# Altium footprint library Dual-In-Line Package.PcbLib: 120 footprints (part 7 of 8)
Each footprint in its own frame and in the unit in brackets; x right, y up, seen from the top. Pads: shape width x height; smd on the part's side, far side on the other; paste and mask are expansions set on the pad; w line width, h text height; cw(c..) or ccw(c..) is an arc to the next point about the centre after c.
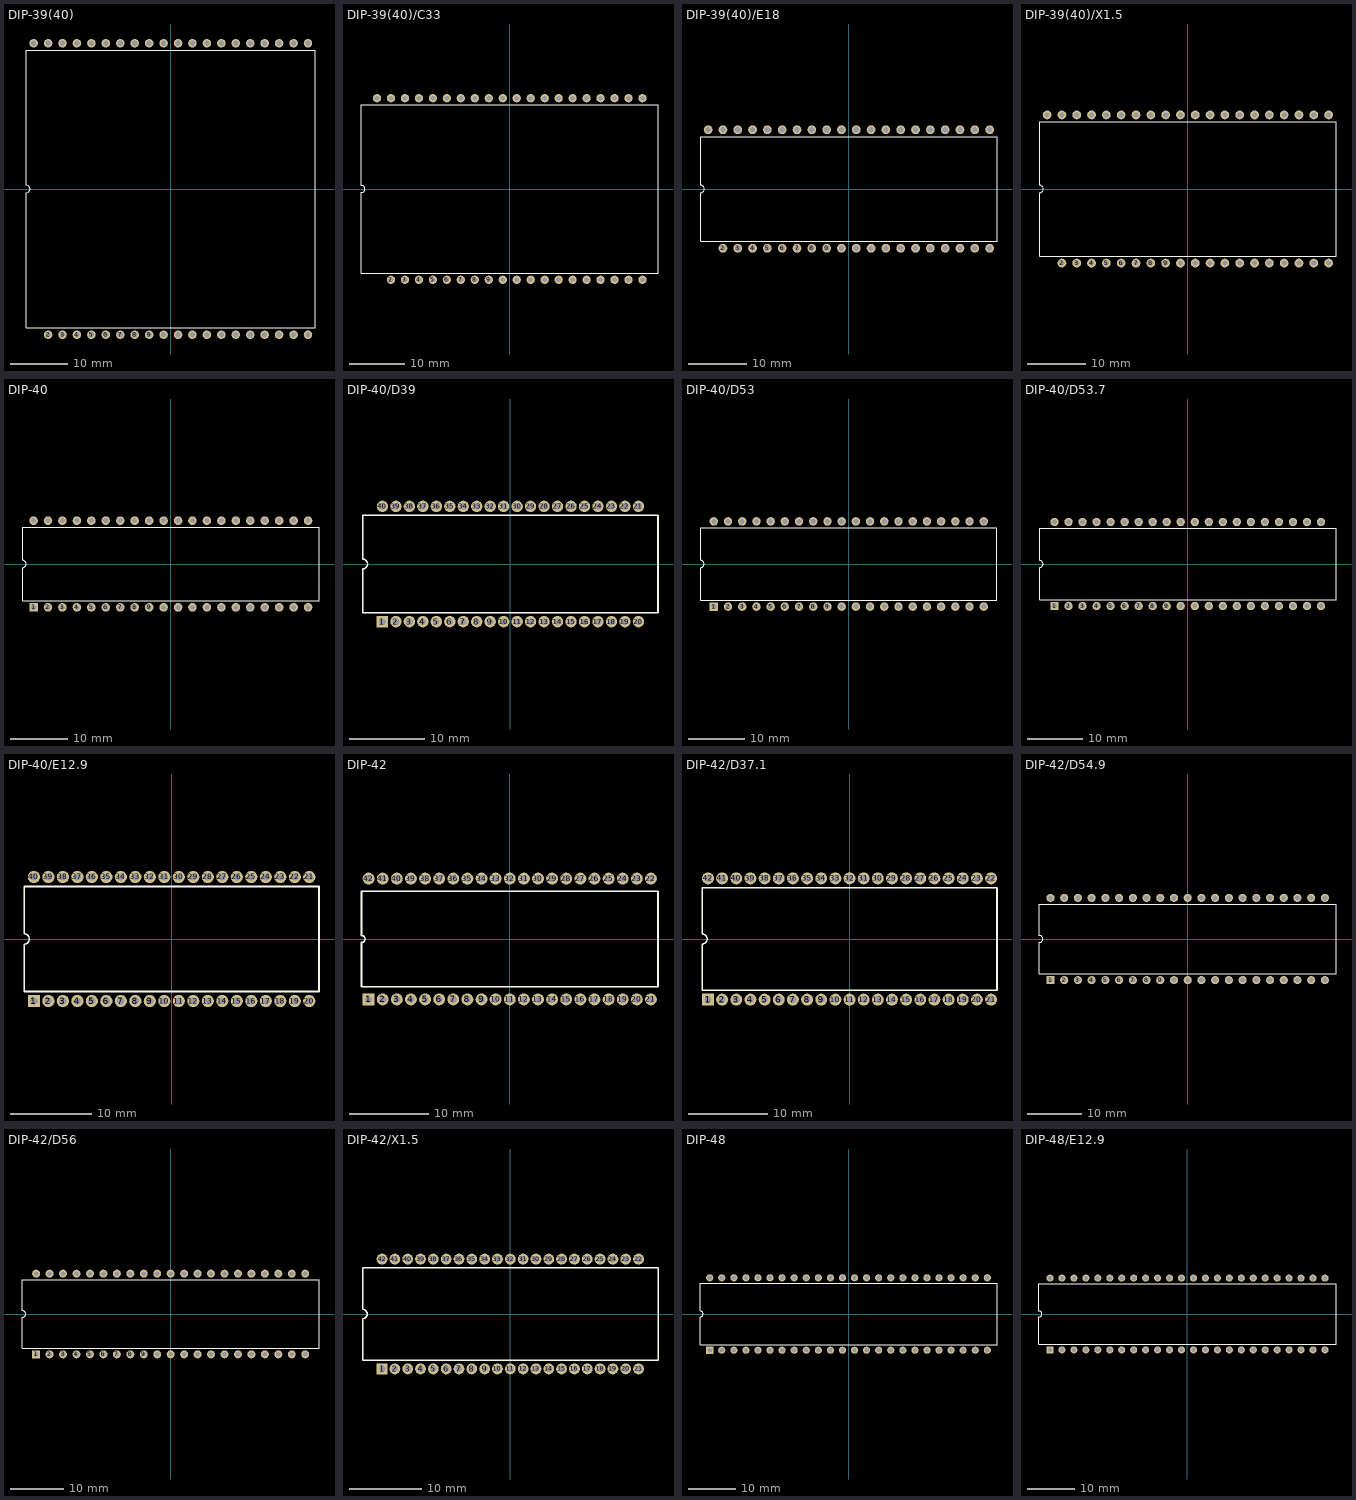
[diagram p6: the footprints below, top view; thin cyan lines are the x and y axes]

## DIP-39(40) [mm] "DIP; 40 Leads (1 Absent); Row Spacing 51.269 mm; Pitch 2.54 mm"
height 7.3
pads (39):
  round 1.5 hole 0.9: 2(-21.59,-25.635) 3(-19.05,-25.635) 4(-16.51,-25.635) 5(-13.97,-25.635) 6(-11.43,-25.635) 7(-8.89,-25.635) 8(-6.35,-25.635) 9(-3.81,-25.635) 10(-1.27,-25.635) 11(1.27,-25.635) 12(3.81,-25.635) 13(6.35,-25.635) 14(8.89,-25.635) 15(11.43,-25.635) 16(13.97,-25.635) 17(16.51,-25.635) 18(19.05,-25.635) 19(21.59,-25.635) 20(24.13,-25.635) 21(24.13,25.635) 22(21.59,25.635) 23(19.05,25.635) 24(16.51,25.635) 25(13.97,25.635) 26(11.43,25.635) 27(8.89,25.635) 28(6.35,25.635) 29(3.81,25.635) 30(1.27,25.635) 31(-1.27,25.635) 32(-3.81,25.635) 33(-6.35,25.635) 34(-8.89,25.635) 35(-11.43,25.635) 36(-13.97,25.635) 37(-16.51,25.635) 38(-19.05,25.635) 39(-21.59,25.635) 40(-24.13,25.635)
Top Overlay:
  lines w0.2: -25.4,-24.45 25.4,-24.45 25.4,24.45 -25.4,24.45 -25.4,0.635 cw(c-25.4,0) -25.4,-0.635 -25.4,-24.45

## DIP-39(40)/C33 [mm] "DIP; 40 Leads (1 Absent); Row Spacing 33 mm; Pitch 2.54 mm"
height 10.17
pads (39):
  round 1.5 hole 0.9: 2(-21.59,-16.5) 3(-19.05,-16.5) 4(-16.51,-16.5) 5(-13.97,-16.5) 6(-11.43,-16.5) 7(-8.89,-16.5) 8(-6.35,-16.5) 9(-3.81,-16.5) 10(-1.27,-16.5) 11(1.27,-16.5) 12(3.81,-16.5) 13(6.35,-16.5) 14(8.89,-16.5) 15(11.43,-16.5) 16(13.97,-16.5) 17(16.51,-16.5) 18(19.05,-16.5) 19(21.59,-16.5) 20(24.13,-16.5) 21(24.13,16.5) 22(21.59,16.5) 23(19.05,16.5) 24(16.51,16.5) 25(13.97,16.5) 26(11.43,16.5) 27(8.89,16.5) 28(6.35,16.5) 29(3.81,16.5) 30(1.27,16.5) 31(-1.27,16.5) 32(-3.81,16.5) 33(-6.35,16.5) 34(-8.89,16.5) 35(-11.43,16.5) 36(-13.97,16.5) 37(-16.51,16.5) 38(-19.05,16.5) 39(-21.59,16.5) 40(-24.13,16.5)
Top Overlay:
  lines w0.2: -26.95,-15.35 26.95,-15.35 26.95,15.35 -26.95,15.35 -26.95,0.635 cw(c-26.95,0) -26.95,-0.635 -26.95,-15.35

## DIP-39(40)/E18 [mm] "DIP; 40 Leads (1 Absent); Row Spacing 20.32 mm; Pitch 2.54 mm"
height 8.65
pads (39):
  round 1.5 hole 0.9: 2(-21.59,-10.16) 3(-19.05,-10.16) 4(-16.51,-10.16) 5(-13.97,-10.16) 6(-11.43,-10.16) 7(-8.89,-10.16) 8(-6.35,-10.16) 9(-3.81,-10.16) 10(-1.27,-10.16) 11(1.27,-10.16) 12(3.81,-10.16) 13(6.35,-10.16) 14(8.89,-10.16) 15(11.43,-10.16) 16(13.97,-10.16) 17(16.51,-10.16) 18(19.05,-10.16) 19(21.59,-10.16) 20(24.13,-10.16) 21(24.13,10.16) 22(21.59,10.16) 23(19.05,10.16) 24(16.51,10.16) 25(13.97,10.16) 26(11.43,10.16) 27(8.89,10.16) 28(6.35,10.16) 29(3.81,10.16) 30(1.27,10.16) 31(-1.27,10.16) 32(-3.81,10.16) 33(-6.35,10.16) 34(-8.89,10.16) 35(-11.43,10.16) 36(-13.97,10.16) 37(-16.51,10.16) 38(-19.05,10.16) 39(-21.59,10.16) 40(-24.13,10.16)
Top Overlay:
  lines w0.2: -25.4,-9 -25.4,-0.635 ccw(c-25.4,0) -25.4,0.635 -25.4,9 25.4,9 25.4,-9 -25.4,-9

## DIP-39(40)/X1.5 [mm] "DIP; 40 Leads (1 Absent); Row Spacing 25.4 mm; Pitch 2.54 mm"
height 7.62
pads (39):
  round 1.5 hole 0.9: 2(-21.59,-12.7) 3(-19.05,-12.7) 4(-16.51,-12.7) 5(-13.97,-12.7) 6(-11.43,-12.7) 7(-8.89,-12.7) 8(-6.35,-12.7) 9(-3.81,-12.7) 10(-1.27,-12.7) 11(1.27,-12.7) 12(3.81,-12.7) 13(6.35,-12.7) 14(8.89,-12.7) 15(11.43,-12.7) 16(13.97,-12.7) 17(16.51,-12.7) 18(19.05,-12.7) 19(21.59,-12.7) 20(24.13,-12.7) 21(24.13,12.7) 22(21.59,12.7) 23(19.05,12.7) 24(16.51,12.7) 25(13.97,12.7) 26(11.43,12.7) 27(8.89,12.7) 28(6.35,12.7) 29(3.81,12.7) 30(1.27,12.7) 31(-1.27,12.7) 32(-3.81,12.7) 33(-6.35,12.7) 34(-8.89,12.7) 35(-11.43,12.7) 36(-13.97,12.7) 37(-16.51,12.7) 38(-19.05,12.7) 39(-21.59,12.7) 40(-24.13,12.7)
Top Overlay:
  lines w0.2: -25.4,-11.55 -25.4,-0.635 ccw(c-25.4,0) -25.4,0.635 -25.4,11.55 25.4,11.55 25.4,-11.55 -25.4,-11.55

## DIP-40 [mm] "DIP; 40 Leads; Row Spacing 15.24 mm; Pitch 2.54 mm"
height 5.08
pads (40):
  rect 1.5x1.5 hole 0.9: 1(-24.13,-7.62)
  round 1.5 hole 0.9: 2(-21.59,-7.62) 3(-19.05,-7.62) 4(-16.51,-7.62) 5(-13.97,-7.62) 6(-11.43,-7.62) 7(-8.89,-7.62) 8(-6.35,-7.62) 9(-3.81,-7.62) 10(-1.27,-7.62) 11(1.27,-7.62) 12(3.81,-7.62) 13(6.35,-7.62) 14(8.89,-7.62) 15(11.43,-7.62) 16(13.97,-7.62) 17(16.51,-7.62) 18(19.05,-7.62) 19(21.59,-7.62) 20(24.13,-7.62) 21(24.13,7.62) 22(21.59,7.62) 23(19.05,7.62) 24(16.51,7.62) 25(13.97,7.62) 26(11.43,7.62) 27(8.89,7.62) 28(6.35,7.62) 29(3.81,7.62) 30(1.27,7.62) 31(-1.27,7.62) 32(-3.81,7.62) 33(-6.35,7.62) 34(-8.89,7.62) 35(-11.43,7.62) 36(-13.97,7.62) 37(-16.51,7.62) 38(-19.05,7.62) 39(-21.59,7.62) 40(-24.13,7.62)
Top Overlay:
  lines w0.2: -26.05,-6.45 -26.05,-0.635 ccw(c-26.05,0) -26.05,0.635 -26.05,6.45 26.05,6.45 26.05,-6.45 -26.05,-6.45

## DIP-40/D39 [mm] "DIP; 40 Leads; Row Spacing 15.24 mm; Pitch 1.778 mm"
height 5.08
pads (40):
  rect 1.5x1.5 hole 0.9: 1(-16.91,-7.62)
  round 1.5 hole 0.9: 2(-15.13,-7.62) 3(-13.35,-7.62) 4(-11.57,-7.62) 5(-9.79,-7.62) 6(-8.01,-7.62) 7(-6.23,-7.62) 8(-4.45,-7.62) 9(-2.67,-7.62) 10(-0.89,-7.62) 11(0.89,-7.62) 12(2.67,-7.62) 13(4.45,-7.62) 14(6.23,-7.62) 15(8.01,-7.62) 16(9.79,-7.62) 17(11.57,-7.62) 18(13.35,-7.62) 19(15.13,-7.62) 20(16.91,-7.62) 21(16.91,7.62) 22(15.13,7.62) 23(13.35,7.62) 24(11.57,7.62) 25(9.79,7.62) 26(8.01,7.62) 27(6.23,7.62) 28(4.45,7.62) 29(2.67,7.62) 30(0.89,7.62) 31(-0.89,7.62) 32(-2.67,7.62) 33(-4.45,7.62) 34(-6.23,7.62) 35(-8.01,7.62) 36(-9.79,7.62) 37(-11.57,7.62) 38(-13.35,7.62) 39(-15.13,7.62) 40(-16.91,7.62)
Top Overlay:
  lines w0.2: -19.5,-6.45 -19.5,-0.635 ccw(c-19.5,0) -19.5,0.635 -19.5,6.45 19.5,6.45 19.5,-6.45 -19.5,-6.45

## DIP-40/D53 [mm] "40-Pin Ceramic Dual In-Line Package (CerDIP)"
height 5.72
pads (40):
  rect 1.5x1.5 hole 0.9: 1(-24.13,-7.62)
  round 1.5 hole 0.9: 2(-21.59,-7.62) 3(-19.05,-7.62) 4(-16.51,-7.62) 5(-13.97,-7.62) 6(-11.43,-7.62) 7(-8.89,-7.62) 8(-6.35,-7.62) 9(-3.81,-7.62) 10(-1.27,-7.62) 11(1.27,-7.62) 12(3.81,-7.62) 13(6.35,-7.62) 14(8.89,-7.62) 15(11.43,-7.62) 16(13.97,-7.62) 17(16.51,-7.62) 18(19.05,-7.62) 19(21.59,-7.62) 20(24.13,-7.62) 21(24.13,7.62) 22(21.59,7.62) 23(19.05,7.62) 24(16.51,7.62) 25(13.97,7.62) 26(11.43,7.62) 27(8.89,7.62) 28(6.35,7.62) 29(3.81,7.62) 30(1.27,7.62) 31(-1.27,7.62) 32(-3.81,7.62) 33(-6.35,7.62) 34(-8.89,7.62) 35(-11.43,7.62) 36(-13.97,7.62) 37(-16.51,7.62) 38(-19.05,7.62) 39(-21.59,7.62) 40(-24.13,7.62)
Top Overlay:
  lines w0.2: -26.5,-6.45 26.5,-6.45 26.5,6.45 -26.5,6.45 -26.5,0.635 cw(c-26.5,0) -26.5,-0.635 -26.5,-6.45

## DIP-40/D53.7 [mm] "DIP; 40 Leads; Row Spacing 15.24 mm; Pitch 2.54 mm"
height 6.35
pads (40):
  rect 1.5x1.5 hole 0.9: 1(-24.13,-7.62)
  round 1.5 hole 0.9: 2(-21.59,-7.62) 3(-19.05,-7.62) 4(-16.51,-7.62) 5(-13.97,-7.62) 6(-11.43,-7.62) 7(-8.89,-7.62) 8(-6.35,-7.62) 9(-3.81,-7.62) 10(-1.27,-7.62) 11(1.27,-7.62) 12(3.81,-7.62) 13(6.35,-7.62) 14(8.89,-7.62) 15(11.43,-7.62) 16(13.97,-7.62) 17(16.51,-7.62) 18(19.05,-7.62) 19(21.59,-7.62) 20(24.13,-7.62) 21(24.13,7.62) 22(21.59,7.62) 23(19.05,7.62) 24(16.51,7.62) 25(13.97,7.62) 26(11.43,7.62) 27(8.89,7.62) 28(6.35,7.62) 29(3.81,7.62) 30(1.27,7.62) 31(-1.27,7.62) 32(-3.81,7.62) 33(-6.35,7.62) 34(-8.89,7.62) 35(-11.43,7.62) 36(-13.97,7.62) 37(-16.51,7.62) 38(-19.05,7.62) 39(-21.59,7.62) 40(-24.13,7.62)
Top Overlay:
  lines w0.2: -26.85,-6.45 -26.85,-0.635 ccw(c-26.85,0) -26.85,0.635 -26.85,6.45 26.85,6.45 26.85,-6.45 -26.85,-6.45

## DIP-40/E12.9 [mm] "DIP; 40 Leads; Row Spacing 15.24 mm; Pitch 1.78 mm"
height 3.67
pads (40):
  rect 1.5x1.5 hole 0.9: 1(-16.91,-7.62)
  round 1.5 hole 0.9: 2(-15.13,-7.62) 3(-13.35,-7.62) 4(-11.57,-7.62) 5(-9.79,-7.62) 6(-8.01,-7.62) 7(-6.23,-7.62) 8(-4.45,-7.62) 9(-2.67,-7.62) 10(-0.89,-7.62) 11(0.89,-7.62) 12(2.67,-7.62) 13(4.45,-7.62) 14(6.23,-7.62) 15(8.01,-7.62) 16(9.79,-7.62) 17(11.57,-7.62) 18(13.35,-7.62) 19(15.13,-7.62) 20(16.91,-7.62) 21(16.91,7.62) 22(15.13,7.62) 23(13.35,7.62) 24(11.57,7.62) 25(9.79,7.62) 26(8.01,7.62) 27(6.23,7.62) 28(4.45,7.62) 29(2.67,7.62) 30(0.89,7.62) 31(-0.89,7.62) 32(-2.67,7.62) 33(-4.45,7.62) 34(-6.23,7.62) 35(-8.01,7.62) 36(-9.79,7.62) 37(-11.57,7.62) 38(-13.35,7.62) 39(-15.13,7.62) 40(-16.91,7.62)
Top Overlay:
  lines w0.2: -18.1,-6.45 -18.1,-0.635 ccw(c-18.1,0) -18.1,0.635 -18.1,6.45 18.1,6.45 18.1,-6.45 -18.1,-6.45

## DIP-42 [mm] "DIP; 42 Leads; Row Spacing 15.24 mm; Pitch 1.78 mm"
height 5.1
pads (42):
  rect 1.5x1.5 hole 0.9: 1(-17.8,-7.62)
  round 1.5 hole 0.9: 2(-16.02,-7.62) 3(-14.24,-7.62) 4(-12.46,-7.62) 5(-10.68,-7.62) 6(-8.9,-7.62) 7(-7.12,-7.62) 8(-5.34,-7.62) 9(-3.56,-7.62) 10(-1.78,-7.62) 11(0,-7.62) 12(1.78,-7.62) 13(3.56,-7.62) 14(5.34,-7.62) 15(7.12,-7.62) 16(8.9,-7.62) 17(10.68,-7.62) 18(12.46,-7.62) 19(14.24,-7.62) 20(16.02,-7.62) 21(17.8,-7.62) 22(17.8,7.62) 23(16.02,7.62) 24(14.24,7.62) 25(12.46,7.62) 26(10.68,7.62) 27(8.9,7.62) 28(7.12,7.62) 29(5.34,7.62) 30(3.56,7.62) 31(1.78,7.62) 32(0,7.62) 33(-1.78,7.62) 34(-3.56,7.62) 35(-5.34,7.62) 36(-7.12,7.62) 37(-8.9,7.62) 38(-10.68,7.62) 39(-12.46,7.62) 40(-14.24,7.62) 41(-16.02,7.62) 42(-17.8,7.62)
Top Overlay:
  lines w0.2: -18.69,-6.035 -18.69,-0.445 ccw(c-18.69,0) -18.69,0.445 -18.69,6.035 18.69,6.035 18.69,-6.035 -18.69,-6.035

## DIP-42/D37.1 [mm] "DIP, Plastic; 42 Leads; Row Spacing 15.24 mm; Pitch 1.778 mm"
height 5.08
pads (42):
  rect 1.5x1.5 hole 0.9: 1(-17.8,-7.62)
  round 1.5 hole 0.9: 2(-16.02,-7.62) 3(-14.24,-7.62) 4(-12.46,-7.62) 5(-10.68,-7.62) 6(-8.9,-7.62) 7(-7.12,-7.62) 8(-5.34,-7.62) 9(-3.56,-7.62) 10(-1.78,-7.62) 11(0,-7.62) 12(1.78,-7.62) 13(3.56,-7.62) 14(5.34,-7.62) 15(7.12,-7.62) 16(8.9,-7.62) 17(10.68,-7.62) 18(12.46,-7.62) 19(14.24,-7.62) 20(16.02,-7.62) 21(17.8,-7.62) 22(17.8,7.62) 23(16.02,7.62) 24(14.24,7.62) 25(12.46,7.62) 26(10.68,7.62) 27(8.9,7.62) 28(7.12,7.62) 29(5.34,7.62) 30(3.56,7.62) 31(1.78,7.62) 32(0,7.62) 33(-1.78,7.62) 34(-3.56,7.62) 35(-5.34,7.62) 36(-7.12,7.62) 37(-8.9,7.62) 38(-10.68,7.62) 39(-12.46,7.62) 40(-14.24,7.62) 41(-16.02,7.62) 42(-17.8,7.62)
Top Overlay:
  lines w0.2: -18.55,-6.45 18.55,-6.45 18.55,6.45 -18.55,6.45 -18.55,0.635 cw(c-18.55,0) -18.55,-0.635 -18.55,-6.45

## DIP-42/D54.9 [mm] "Ceramic Frit-seal DIP, Window; 42 Leads; Row Spacing 15.24 mm; Pitch 2.54 mm"
height 5.72
pads (42):
  rect 1.5x1.5 hole 0.9: 1(-25.4,-7.62)
  round 1.5 hole 0.9: 2(-22.86,-7.62) 3(-20.32,-7.62) 4(-17.78,-7.62) 5(-15.24,-7.62) 6(-12.7,-7.62) 7(-10.16,-7.62) 8(-7.62,-7.62) 9(-5.08,-7.62) 10(-2.54,-7.62) 11(0,-7.62) 12(2.54,-7.62) 13(5.08,-7.62) 14(7.62,-7.62) 15(10.16,-7.62) 16(12.7,-7.62) 17(15.24,-7.62) 18(17.78,-7.62) 19(20.32,-7.62) 20(22.86,-7.62) 21(25.4,-7.62) 22(25.4,7.62) 23(22.86,7.62) 24(20.32,7.62) 25(17.78,7.62) 26(15.24,7.62) 27(12.7,7.62) 28(10.16,7.62) 29(7.62,7.62) 30(5.08,7.62) 31(2.54,7.62) 32(0,7.62) 33(-2.54,7.62) 34(-5.08,7.62) 35(-7.62,7.62) 36(-10.16,7.62) 37(-12.7,7.62) 38(-15.24,7.62) 39(-17.78,7.62) 40(-20.32,7.62) 41(-22.86,7.62) 42(-25.4,7.62)
Top Overlay:
  lines w0.2: -27.45,-6.45 -27.45,-0.635 ccw(c-27.45,0) -27.45,0.635 -27.45,6.45 27.45,6.45 27.45,-6.45 -27.45,-6.45

## DIP-42/D56 [mm] "DIP; 42 Leads; Row Spacing 15.24 mm; Pitch 2.54 mm"
height 5.72
pads (42):
  rect 1.5x1.5 hole 0.9: 1(-25.4,-7.62)
  round 1.5 hole 0.9: 2(-22.86,-7.62) 3(-20.32,-7.62) 4(-17.78,-7.62) 5(-15.24,-7.62) 6(-12.7,-7.62) 7(-10.16,-7.62) 8(-7.62,-7.62) 9(-5.08,-7.62) 10(-2.54,-7.62) 11(0,-7.62) 12(2.54,-7.62) 13(5.08,-7.62) 14(7.62,-7.62) 15(10.16,-7.62) 16(12.7,-7.62) 17(15.24,-7.62) 18(17.78,-7.62) 19(20.32,-7.62) 20(22.86,-7.62) 21(25.4,-7.62) 22(25.4,7.62) 23(22.86,7.62) 24(20.32,7.62) 25(17.78,7.62) 26(15.24,7.62) 27(12.7,7.62) 28(10.16,7.62) 29(7.62,7.62) 30(5.08,7.62) 31(2.54,7.62) 32(0,7.62) 33(-2.54,7.62) 34(-5.08,7.62) 35(-7.62,7.62) 36(-10.16,7.62) 37(-12.7,7.62) 38(-15.24,7.62) 39(-17.78,7.62) 40(-20.32,7.62) 41(-22.86,7.62) 42(-25.4,7.62)
Top Overlay:
  lines w0.2: -28,-6.45 28,-6.45 28,6.45 -28,6.45 -28,0.635 cw(c-28,0) -28,-0.635 -28,-6.45

## DIP-42/X1.5 [mm] "DIP; 42 Leads; Row Spacing 15.24 mm; Pitch 1.778 mm"
height 5.08
pads (42):
  rect 1.5x1.5 hole 0.9: 1(-17.8,-7.62)
  round 1.5 hole 0.9: 2(-16.02,-7.62) 3(-14.24,-7.62) 4(-12.46,-7.62) 5(-10.68,-7.62) 6(-8.9,-7.62) 7(-7.12,-7.62) 8(-5.34,-7.62) 9(-3.56,-7.62) 10(-1.78,-7.62) 11(0,-7.62) 12(1.78,-7.62) 13(3.56,-7.62) 14(5.34,-7.62) 15(7.12,-7.62) 16(8.9,-7.62) 17(10.68,-7.62) 18(12.46,-7.62) 19(14.24,-7.62) 20(16.02,-7.62) 21(17.8,-7.62) 22(17.8,7.62) 23(16.02,7.62) 24(14.24,7.62) 25(12.46,7.62) 26(10.68,7.62) 27(8.9,7.62) 28(7.12,7.62) 29(5.34,7.62) 30(3.56,7.62) 31(1.78,7.62) 32(0,7.62) 33(-1.78,7.62) 34(-3.56,7.62) 35(-5.34,7.62) 36(-7.12,7.62) 37(-8.9,7.62) 38(-10.68,7.62) 39(-12.46,7.62) 40(-14.24,7.62) 41(-16.02,7.62) 42(-17.8,7.62)
Top Overlay:
  lines w0.2: -20.5,-6.45 20.5,-6.45 20.5,6.45 -20.5,6.45 -20.5,0.635 cw(c-20.5,0) -20.5,-0.635 -20.5,-6.45

## DIP-48 [mm] "DIP, Moulded; 48 Leads; Row Spacing 15.24 mm; Pitch 2.54 mm"
height 5.34
pads (48):
  rect 1.5x1.5 hole 0.9: 1(-29.21,-7.62)
  round 1.5 hole 0.9: 2(-26.67,-7.62) 3(-24.13,-7.62) 4(-21.59,-7.62) 5(-19.05,-7.62) 6(-16.51,-7.62) 7(-13.97,-7.62) 8(-11.43,-7.62) 9(-8.89,-7.62) 10(-6.35,-7.62) 11(-3.81,-7.62) 12(-1.27,-7.62) 13(1.27,-7.62) 14(3.81,-7.62) 15(6.35,-7.62) 16(8.89,-7.62) 17(11.43,-7.62) 18(13.97,-7.62) 19(16.51,-7.62) 20(19.05,-7.62) 21(21.59,-7.62) 22(24.13,-7.62) 23(26.67,-7.62) 24(29.21,-7.62) 25(29.21,7.62) 26(26.67,7.62) 27(24.13,7.62) 28(21.59,7.62) 29(19.05,7.62) 30(16.51,7.62) 31(13.97,7.62) 32(11.43,7.62) 33(8.89,7.62) 34(6.35,7.62) 35(3.81,7.62) 36(1.27,7.62) 37(-1.27,7.62) 38(-3.81,7.62) 39(-6.35,7.62) 40(-8.89,7.62) 41(-11.43,7.62) 42(-13.97,7.62) 43(-16.51,7.62) 44(-19.05,7.62) 45(-21.59,7.62) 46(-24.13,7.62) 47(-26.67,7.62) 48(-29.21,7.62)
Top Overlay:
  lines w0.2: -31.25,-6.45 31.25,-6.45 31.25,6.45 -31.25,6.45 -31.25,0.635 cw(c-31.25,0) -31.25,-0.635 -31.25,-6.45

## DIP-48/E12.9 [mm] "DIP, Plastic; 48 Leads; Row Spacing 15.24 mm; Pitch 2.54 mm"
height 6.35
pads (48):
  rect 1.5x1.5 hole 0.9: 1(-29.21,-7.62)
  round 1.5 hole 0.9: 2(-26.67,-7.62) 3(-24.13,-7.62) 4(-21.59,-7.62) 5(-19.05,-7.62) 6(-16.51,-7.62) 7(-13.97,-7.62) 8(-11.43,-7.62) 9(-8.89,-7.62) 10(-6.35,-7.62) 11(-3.81,-7.62) 12(-1.27,-7.62) 13(1.27,-7.62) 14(3.81,-7.62) 15(6.35,-7.62) 16(8.89,-7.62) 17(11.43,-7.62) 18(13.97,-7.62) 19(16.51,-7.62) 20(19.05,-7.62) 21(21.59,-7.62) 22(24.13,-7.62) 23(26.67,-7.62) 24(29.21,-7.62) 25(29.21,7.62) 26(26.67,7.62) 27(24.13,7.62) 28(21.59,7.62) 29(19.05,7.62) 30(16.51,7.62) 31(13.97,7.62) 32(11.43,7.62) 33(8.89,7.62) 34(6.35,7.62) 35(3.81,7.62) 36(1.27,7.62) 37(-1.27,7.62) 38(-3.81,7.62) 39(-6.35,7.62) 40(-8.89,7.62) 41(-11.43,7.62) 42(-13.97,7.62) 43(-16.51,7.62) 44(-19.05,7.62) 45(-21.59,7.62) 46(-24.13,7.62) 47(-26.67,7.62) 48(-29.21,7.62)
Top Overlay:
  lines w0.2: -31.55,-6.45 31.55,-6.45 31.55,6.45 -31.55,6.45 -31.55,0.635 cw(c-31.55,0) -31.55,-0.635 -31.55,-6.45